# Altium footprint library 16-SOIC-TI-NS.PcbLib: 1 footprints
Each footprint in its own frame and in the unit in brackets; x right, y up, seen from the top. Pads: shape width x height; smd on the part's side, far side on the other; paste and mask are expansions set on the pad; w line width, h text height; cw(c..) or ccw(c..) is an arc to the next point about the centre after c.
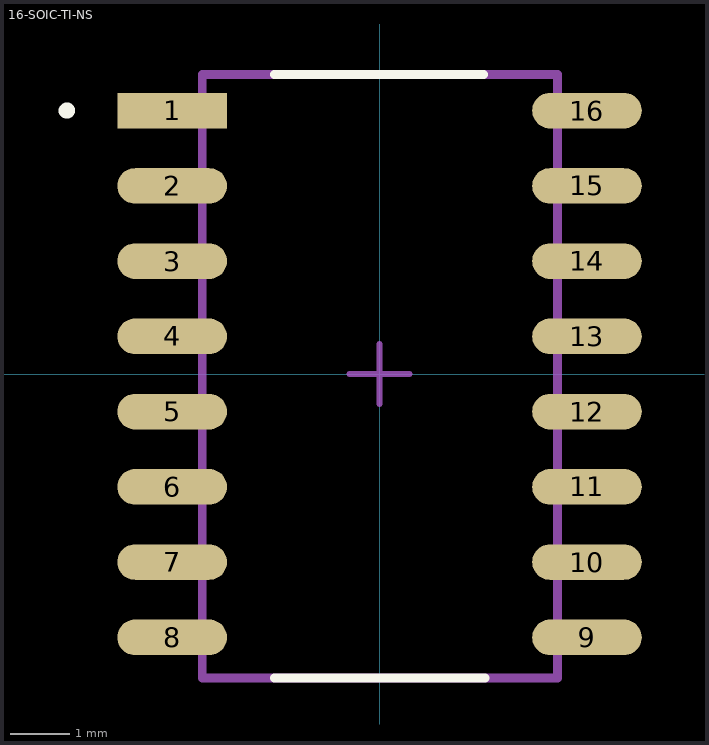
[diagram p0: the footprint, top view; thin cyan lines are the x and y axes]

## 16-SOIC-TI-NS [mm]
pads (16):
  rect 1.85x0.6 smd mask+0.051: 1(-3.5,4.445)
  oval 1.85x0.6 smd mask+0.051: 2(-3.5,3.175) 3(-3.5,1.905) 4(-3.5,0.635) 5(-3.5,-0.635) 6(-3.5,-1.905) 7(-3.5,-3.175) 8(-3.5,-4.445) 9(3.5,-4.445) 10(3.5,-3.175) 11(3.5,-1.905) 12(3.5,-0.635) 13(3.5,0.635) 14(3.5,1.905) 15(3.5,3.175) 16(3.5,4.445)
Top Overlay:
  circle w0.254: c-5.278,4.445 r0.01
  lines w0.15: -1.778,-5.131 1.778,-5.131 ; -1.778,5.055 1.753,5.055
Mechanical 13:
  lines w0.15: -2.992,-5.131 3.002,-5.131 3.002,5.055 -2.992,5.055 -2.992,-5.131
Mechanical 15:
  lines w0.1: 0,-0.508 0,0 ; 0,0 -0.508,0 0,0 ; 0,0 0,0.508 0,0 ; 0,0 0.508,0 0,0
3D body "16-SOIC.step": height 1.7, standoff 0, extent -2.969,-5.125 3.031,5.075